# Altium footprint library Common Devices.PcbLib: 33 footprints (part 3 of 3)
Each footprint in its own frame and in the unit in brackets; x right, y up, seen from the top. Pads: shape width x height; smd on the part's side, far side on the other; paste and mask are expansions set on the pad; w line width, h text height; cw(c..) or ccw(c..) is an arc to the next point about the centre after c.
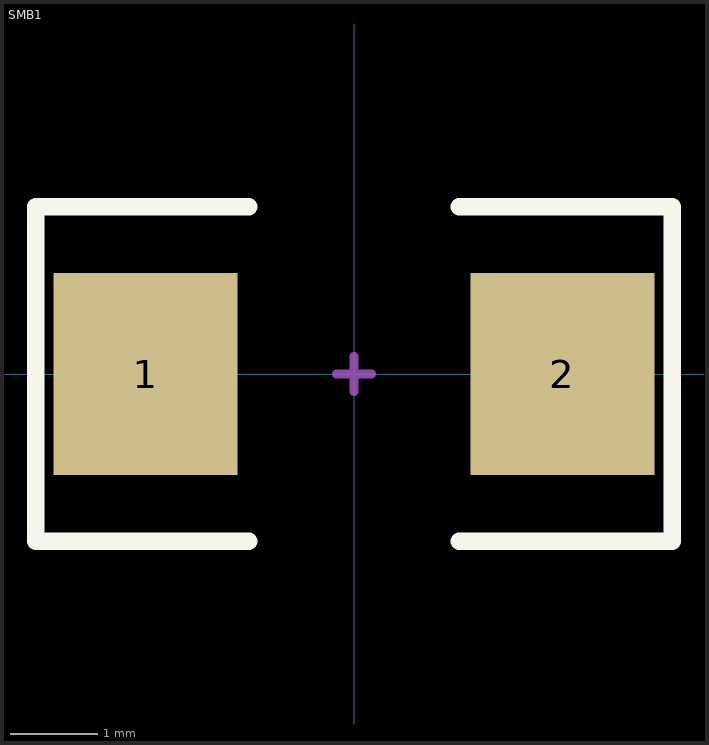
[diagram p2: the footprint, top view; thin cyan lines are the x and y axes]

## SMB1 [mm] "SMBJ"
height 2.44
pads (2):
  rect 2.1x2.3 smd: 1(-2.375,0) 2(2.375,0)
Top Overlay:
  lines w0.2: -1.2,-1.905 -3.625,-1.905 -3.625,1.905 -1.2,1.905 ; 1.2,-1.905 3.625,-1.905 3.625,1.905 1.2,1.905
Mechanical 1:
  lines w0.1: -0.2,0 0.2,0 ; 0,-0.2 0,0.2
3D body "SW3dPS-DO-214AA SMB.STEP": height 2.3, standoff 0, extent -2.7,-1.8 2.7,1.8